# Altium footprint library XSTR.PcbLib: 36 footprints (part 2 of 3)
Each footprint in its own frame and in the unit in brackets; x right, y up, seen from the top. Pads: shape width x height; smd on the part's side, far side on the other; paste and mask are expansions set on the pad; w line width, h text height; cw(c..) or ccw(c..) is an arc to the next point about the centre after c.
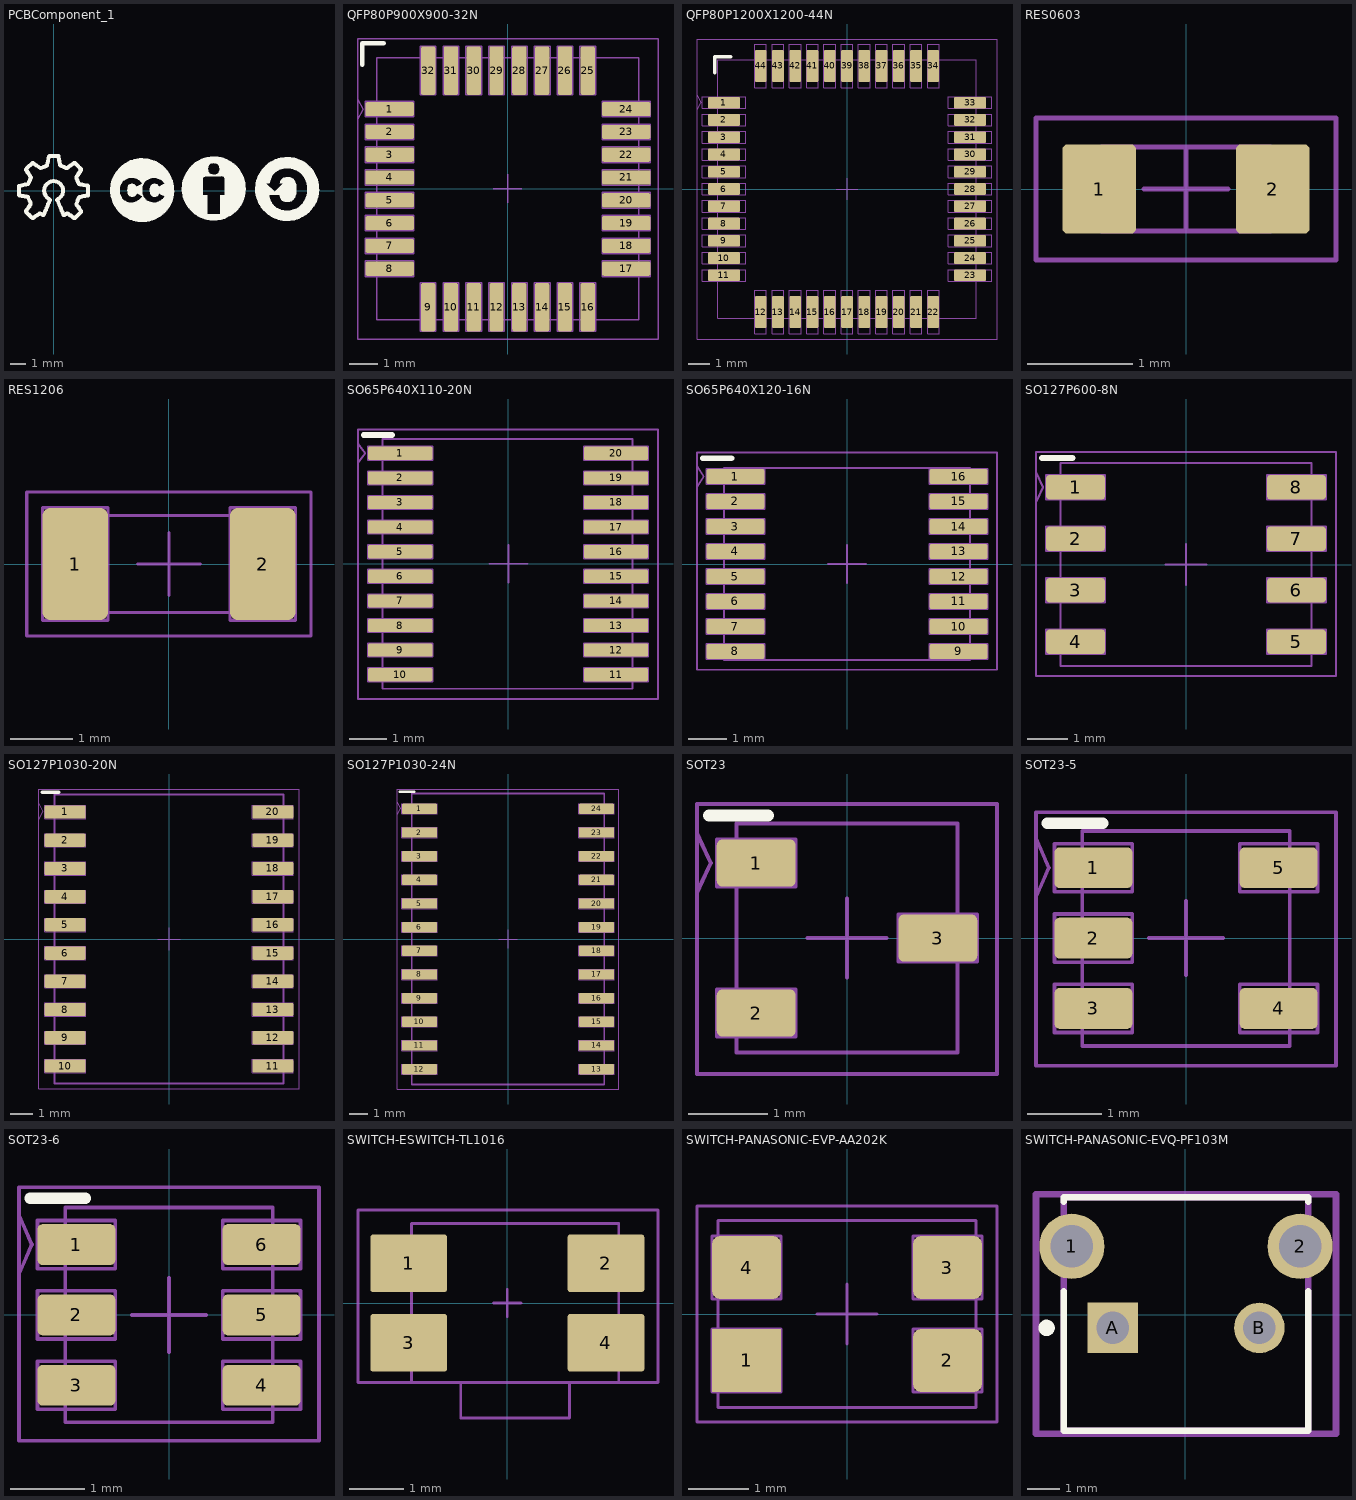
[diagram p1: the footprints below, top view; thin cyan lines are the x and y axes]

## PCBComponent_1 [mm]
Top Overlay:
  drawing of 274 lines, arcs and shapes, not listed

## QFP80P900X900-32N [mm] "TQFP80P900X900 32N"
height 1.2
pads (32):
  rrect25% 1.7x0.5 smd mask+0.075: 1(-4.139,2.791) 2(-4.139,1.991) 3(-4.139,1.191) 4(-4.139,0.391) 5(-4.139,-0.409) 6(-4.139,-1.209) 7(-4.139,-2.009) 8(-4.139,-2.809) 17(4.161,-2.809) 18(4.161,-2.009) 19(4.161,-1.209) 20(4.161,-0.409) 21(4.161,0.391) 22(4.161,1.191) 23(4.161,1.991) 24(4.161,2.791)
  rrect25% 0.5x1.7 smd mask+0.075: 9(-2.789,-4.159) 10(-1.989,-4.159) 11(-1.189,-4.159) 12(-0.389,-4.159) 13(0.411,-4.159) 14(1.211,-4.159) 15(2.011,-4.159) 16(2.811,-4.159) 25(2.811,4.141) 26(2.011,4.141) 27(1.211,4.141) 28(0.411,4.141) 29(-0.389,4.141) 30(-1.189,4.141) 31(-1.989,4.141) 32(-2.789,4.141)
Top Overlay:
  lines w0.15: -5.1,4.35 -5.1,5.1 -4.35,5.1
Top Courtyard:
  lines w0.05: -5.25,2.441 -5.064,2.791 -5.25,3.141 ; -0.5,0 0,0 ; 0,-0.5 0,0 ; 0,0.5 0,0 ; 0.5,0 0,0 ; -5.25,-5.275 -5.25,5.25 5.275,5.25 5.275,-5.275 -5.25,-5.275
Top Assembly:
  lines w0.05: -4.989,-3.084 -4.989,-2.534 -3.289,-2.534 -3.289,-3.084 -4.989,-3.084 ; -4.989,-2.284 -4.989,-1.734 -3.289,-1.734 -3.289,-2.284 -4.989,-2.284 ; -4.989,-1.484 -4.989,-0.934 -3.289,-0.934 -3.289,-1.484 -4.989,-1.484 ; -4.989,-0.684 -4.989,-0.134 -3.289,-0.134 -3.289,-0.684 -4.989,-0.684 ; -4.989,0.116 -4.989,0.666 -3.289,0.666 -3.289,0.116 -4.989,0.116 ; -4.989,0.916 -4.989,1.466 -3.289,1.466 -3.289,0.916 -4.989,0.916 ; -4.989,1.716 -4.989,2.266 -3.289,2.266 -3.289,1.716 -4.989,1.716 ; -4.989,2.516 -4.989,3.066 -3.289,3.066 -3.289,2.516 -4.989,2.516 ; -4.599,-4.6 -4.599,4.599 4.599,4.599 4.599,-4.6 -4.599,-4.6 ; -3.064,-5.009 -3.064,-3.309 -2.514,-3.309 -2.514,-5.009 -3.064,-5.009 ; -3.064,3.291 -3.064,4.991 -2.514,4.991 -2.514,3.291 -3.064,3.291 ; -2.264,-5.009 -2.264,-3.309 -1.714,-3.309 -1.714,-5.009 -2.264,-5.009 ; -2.264,3.291 -2.264,4.991 -1.714,4.991 -1.714,3.291 -2.264,3.291 ; -1.464,-5.009 -1.464,-3.309 -0.914,-3.309 -0.914,-5.009 -1.464,-5.009 ; -1.464,3.291 -1.464,4.991 -0.914,4.991 -0.914,3.291 -1.464,3.291 ; -0.664,-5.009 -0.664,-3.309 -0.114,-3.309 -0.114,-5.009 -0.664,-5.009 ; -0.664,3.291 -0.664,4.991 -0.114,4.991 -0.114,3.291 -0.664,3.291 ; 0.136,-5.009 0.136,-3.309 0.686,-3.309 0.686,-5.009 0.136,-5.009 ; 0.136,3.291 0.136,4.991 0.686,4.991 0.686,3.291 0.136,3.291 ; 0.936,-5.009 0.936,-3.309 1.486,-3.309 1.486,-5.009 0.936,-5.009 ; 0.936,3.291 0.936,4.991 1.486,4.991 1.486,3.291 0.936,3.291 ; 1.736,-5.009 1.736,-3.309 2.286,-3.309 2.286,-5.009 1.736,-5.009 ; 1.736,3.291 1.736,4.991 2.286,4.991 2.286,3.291 1.736,3.291 ; 2.536,-5.009 2.536,-3.309 3.086,-3.309 3.086,-5.009 2.536,-5.009 ; 2.536,3.291 2.536,4.991 3.086,4.991 3.086,3.291 2.536,3.291 ; 3.311,-3.084 3.311,-2.534 5.011,-2.534 5.011,-3.084 3.311,-3.084 ; 3.311,-2.284 3.311,-1.734 5.011,-1.734 5.011,-2.284 3.311,-2.284 ; 3.311,-1.484 3.311,-0.934 5.011,-0.934 5.011,-1.484 3.311,-1.484 ; 3.311,-0.684 3.311,-0.134 5.011,-0.134 5.011,-0.684 3.311,-0.684 ; 3.311,0.116 3.311,0.666 5.011,0.666 5.011,0.116 3.311,0.116 ; 3.311,0.916 3.311,1.466 5.011,1.466 5.011,0.916 3.311,0.916 ; 3.311,1.716 3.311,2.266 5.011,2.266 5.011,1.716 3.311,1.716 ; 3.311,2.516 3.311,3.066 5.011,3.066 5.011,2.516 3.311,2.516
3D body "User Library-tqfp32.step": height 1.2, standoff 0, extent -4.599,-4.6 4.599,4.599

## QFP80P1200X1200-44N [mm] "TQFP80P1200X1200 44N"
height 1.1
pads (44):
  rrect25% 1.5x0.54 smd mask+0.075: 1(-5.7,4) 2(-5.7,3.2) 3(-5.7,2.4) 4(-5.7,1.6) 5(-5.7,0.8) 6(-5.7,0) 7(-5.7,-0.8) 8(-5.7,-1.6) 9(-5.7,-2.4) 10(-5.7,-3.2) 11(-5.7,-4) 23(5.7,-4) 24(5.7,-3.2) 25(5.7,-2.4) 26(5.7,-1.6) 27(5.7,-0.8) 28(5.7,0) 29(5.7,0.8) 30(5.7,1.6) 31(5.7,2.4) 32(5.7,3.2) 33(5.7,4)
  rrect25% 0.54x1.5 smd mask+0.075: 12(-4,-5.7) 13(-3.2,-5.7) 14(-2.4,-5.7) 15(-1.6,-5.7) 16(-0.8,-5.7) 17(0,-5.7) 18(0.8,-5.7) 19(1.6,-5.7) 20(2.4,-5.7) 21(3.2,-5.7) 22(4,-5.7) 34(4,5.7) 35(3.2,5.7) 36(2.4,5.7) 37(1.6,5.7) 38(0.8,5.7) 39(0,5.7) 40(-0.8,5.7) 41(-1.6,5.7) 42(-2.4,5.7) 43(-3.2,5.7) 44(-4,5.7)
Top Overlay:
  lines w0.152: -6.125,5.375 -6.125,6.125 -5.375,6.125
Top Courtyard:
  lines w0.05: -6.95,3.655 -6.775,4 -6.95,4.345 ; -0.5,0 0,0 ; 0,-0.5 0,0 ; 0,0.5 0,0 ; 0.5,0 0,0 ; -6.95,-6.95 -6.95,6.95 6.95,6.95 6.95,-6.95 -6.95,-6.95
Top Assembly:
  drawing of 180 lines, arcs and shapes, not listed
  text "1" at -6.7,3.73 h0.3
3D body "User Library-TQFP-44-1.STEP": height 1.1, standoff 0, extent -6,-6 6,6

## RES0603 [mm] "Chip Resistor, 2-Leads, Body 1.60x0.80mm, IPC Medium Density"
height 0.45
pads (2):
  rrect14% 0.7x0.85 smd mask+0.05: 1(-0.825,0) 2(0.825,0)
Top Courtyard:
  lines w0.05: -0.4,0 0,0 ; 0,-0.4 0,0 ; 0,0.4 0,0 ; 0.4,0 0,0 ; -1.425,-0.675 1.425,-0.675 1.425,0.675 -1.425,0.675 -1.425,-0.675
Top Assembly:
  lines w0.05: -0.8,-0.4 0.8,-0.4 0.8,0.4 -0.8,0.4 -0.8,-0.4
3D body "RESC1608X04N.step": height 0.45, standoff 0, extent -0.8,-0.4 0.8,0.4

## RES1206 [mm] "RESISTOR, CHIP 1206 (3216)"
height 0.474
pads (2):
  rrect25% 1.05x1.8 smd paste+0 mask+0.075: 1(-1.5,0) 2(1.5,0)
Top Courtyard:
  lines w0.05: -0.5,0 0,0 ; 0,-0.5 0,0 ; 0,0.5 0,0 ; 0.5,0 0,0 ; -2.275,-1.15 -2.275,1.15 2.275,1.15 2.275,-1.15 -2.275,-1.15
Top Assembly:
  lines w0.05: -2.025,-0.9 -2.025,0.9 -0.975,0.9 -0.975,-0.9 -2.025,-0.9 ; -1.55,-0.776 -1.55,0.776 1.55,0.776 1.55,-0.776 -1.55,-0.776 ; 0.975,-0.9 0.975,0.9 2.025,0.9 2.025,-0.9 0.975,-0.9
3D body "User Library-R1206.step": height 0.47, standoff 0, extent -1.55,-0.776 1.55,0.776

## SO65P640X110-20N [mm] "TSSOP20 - PITCH 0.65MM, SPAN 6.4MM"
height 1.79
pads (20):
  rrect25% 1.7x0.35 smd mask+0.075: 1(-2.859,2.92) 2(-2.859,2.27) 3(-2.859,1.62) 4(-2.859,0.97) 5(-2.859,0.32) 6(-2.859,-0.33) 7(-2.859,-0.98) 8(-2.859,-1.63) 9(-2.859,-2.28) 10(-2.859,-2.93) 11(2.841,-2.93) 12(2.841,-2.28) 13(2.841,-1.63) 14(2.841,-0.98) 15(2.841,-0.33) 16(2.841,0.32) 17(2.841,0.97) 18(2.841,1.62) 19(2.841,2.27) 20(2.841,2.92)
Top Overlay:
  lines w0.152: -3.825,3.4 -3.075,3.4
Top Courtyard:
  lines w0.05: -3.975,2.67 -3.784,2.92 -3.975,3.17 ; -0.5,0 0,0 ; 0,-0.5 0,0 ; 0,0.5 0,0 ; 0.5,0 0,0 ; -3.975,-3.575 -3.975,3.55 3.95,3.55 3.95,-3.575 -3.975,-3.575
Top Assembly:
  lines w0.05: -3.709,-3.105 -3.709,-2.755 -2.009,-2.755 -2.009,-3.105 -3.709,-3.105 ; -3.709,-2.455 -3.709,-2.105 -2.009,-2.105 -2.009,-2.455 -3.709,-2.455 ; -3.709,-1.805 -3.709,-1.455 -2.009,-1.455 -2.009,-1.805 -3.709,-1.805 ; -3.709,-1.155 -3.709,-0.805 -2.009,-0.805 -2.009,-1.155 -3.709,-1.155 ; -3.709,-0.505 -3.709,-0.155 -2.009,-0.155 -2.009,-0.505 -3.709,-0.505 ; -3.709,0.145 -3.709,0.495 -2.009,0.495 -2.009,0.145 -3.709,0.145 ; -3.709,0.795 -3.709,1.145 -2.009,1.145 -2.009,0.795 -3.709,0.795 ; -3.709,1.445 -3.709,1.795 -2.009,1.795 -2.009,1.445 -3.709,1.445 ; -3.709,2.095 -3.709,2.445 -2.009,2.445 -2.009,2.095 -3.709,2.095 ; -3.709,2.745 -3.709,3.095 -2.009,3.095 -2.009,2.745 -3.709,2.745 ; -3.325,-3.3 -3.325,3.3 3.275,3.3 3.275,-3.3 -3.325,-3.3 ; 1.991,-3.105 1.991,-2.755 3.691,-2.755 3.691,-3.105 1.991,-3.105 ; 1.991,-2.455 1.991,-2.105 3.691,-2.105 3.691,-2.455 1.991,-2.455 ; 1.991,-1.805 1.991,-1.455 3.691,-1.455 3.691,-1.805 1.991,-1.805 ; 1.991,-1.155 1.991,-0.805 3.691,-0.805 3.691,-1.155 1.991,-1.155 ; 1.991,-0.505 1.991,-0.155 3.691,-0.155 3.691,-0.505 1.991,-0.505 ; 1.991,0.145 1.991,0.495 3.691,0.495 3.691,0.145 1.991,0.145 ; 1.991,0.795 1.991,1.145 3.691,1.145 3.691,0.795 1.991,0.795 ; 1.991,1.445 1.991,1.795 3.691,1.795 3.691,1.445 1.991,1.445 ; 1.991,2.095 1.991,2.445 3.691,2.445 3.691,2.095 1.991,2.095 ; 1.991,2.745 1.991,3.095 3.691,3.095 3.691,2.745 1.991,2.745
  text "1" at -3.709,2.745 h0.3
3D body "SW3dPS-TSOP_20.step": height 1.79, standoff -0.05, extent -3.325,-3.3 3.275,3.3

## SO65P640X120-16N [mm] "TSSOP16, 0.65MM PITCH, 6.40MM SPAN, 1.2MM HEIGHT"
height 1.1
pads (16):
  rrect25% 1.5x0.4 smd mask+0.075: 1(-2.9,2.275) 2(-2.9,1.625) 3(-2.9,0.975) 4(-2.9,0.325) 5(-2.9,-0.325) 6(-2.9,-0.975) 7(-2.9,-1.625) 8(-2.9,-2.275) 9(2.9,-2.275) 10(2.9,-1.625) 11(2.9,-0.975) 12(2.9,-0.325) 13(2.9,0.325) 14(2.9,0.975) 15(2.9,1.625) 16(2.9,2.275)
Top Overlay:
  lines w0.152: -3.75,2.75 -3,2.75
Top Courtyard:
  lines w0.05: -3.9,2 -3.725,2.275 -3.9,2.55 ; -0.5,0 0,0 ; 0,-0.5 0,0 ; 0,0.5 0,0 ; 0.5,0 0,0 ; -3.9,-2.75 3.9,-2.75 3.9,2.9 -3.9,2.9 -3.9,-2.75
Top Assembly:
  lines w0.05: -3.65,-2.475 -2.15,-2.475 -2.15,-2.075 -3.65,-2.075 -3.65,-2.475 ; -3.65,-1.825 -2.15,-1.825 -2.15,-1.425 -3.65,-1.425 -3.65,-1.825 ; -3.65,-1.175 -2.15,-1.175 -2.15,-0.775 -3.65,-0.775 -3.65,-1.175 ; -3.65,-0.525 -2.15,-0.525 -2.15,-0.125 -3.65,-0.125 -3.65,-0.525 ; -3.65,0.125 -2.15,0.125 -2.15,0.525 -3.65,0.525 -3.65,0.125 ; -3.65,0.775 -2.15,0.775 -2.15,1.175 -3.65,1.175 -3.65,0.775 ; -3.65,1.425 -2.15,1.425 -2.15,1.825 -3.65,1.825 -3.65,1.425 ; -3.65,2.075 -2.15,2.075 -2.15,2.475 -3.65,2.475 -3.65,2.075 ; -3.2,-2.5 3.2,-2.5 3.2,2.5 -3.2,2.5 -3.2,-2.5 ; 2.15,-2.475 3.65,-2.475 3.65,-2.075 2.15,-2.075 2.15,-2.475 ; 2.15,-1.825 3.65,-1.825 3.65,-1.425 2.15,-1.425 2.15,-1.825 ; 2.15,-1.175 3.65,-1.175 3.65,-0.775 2.15,-0.775 2.15,-1.175 ; 2.15,-0.525 3.65,-0.525 3.65,-0.125 2.15,-0.125 2.15,-0.525 ; 2.15,0.125 3.65,0.125 3.65,0.525 2.15,0.525 2.15,0.125 ; 2.15,0.775 3.65,0.775 3.65,1.175 2.15,1.175 2.15,0.775 ; 2.15,1.425 3.65,1.425 3.65,1.825 2.15,1.825 2.15,1.425 ; 2.15,2.075 3.65,2.075 3.65,2.475 2.15,2.475 2.15,2.075
  text "1" at -3.65,2.075 h0.3
3D body "User Library-TSSOP-16-1.step": height 1.1, standoff 0, extent -3.2,-2.5 3.2,2.5

## SO127P600-8N [mm] "SO8"
height 1.75
pads (8):
  rrect25% 1.45x0.6 smd mask+0.075: 1(-2.725,1.905) 2(-2.725,0.635) 3(-2.725,-0.635) 4(-2.725,-1.905) 5(2.725,-1.905) 6(2.725,-0.635) 7(2.725,0.635) 8(2.725,1.905)
Top Overlay:
  lines w0.15: -3.55,2.625 -2.8,2.625
Top Courtyard:
  lines w0.05: -3.7,1.53 -3.525,1.905 -3.7,2.28 ; -0.5,0 0,0 ; 0,-0.5 0,0 ; 0,0.5 0,0 ; 0.5,0 0,0 ; -3.7,-2.75 3.7,-2.75 3.7,2.775 -3.7,2.775 -3.7,-2.75
Top Assembly:
  lines w0.05: -3.45,-2.205 -2,-2.205 -2,-1.605 -3.45,-1.605 -3.45,-2.205 ; -3.45,-0.935 -2,-0.935 -2,-0.335 -3.45,-0.335 -3.45,-0.935 ; -3.45,0.335 -2,0.335 -2,0.935 -3.45,0.935 -3.45,0.335 ; -3.45,1.605 -2,1.605 -2,2.205 -3.45,2.205 -3.45,1.605 ; -3.1,-2.5 3.1,-2.5 3.1,2.5 -3.1,2.5 -3.1,-2.5 ; 2,-2.205 3.45,-2.205 3.45,-1.605 2,-1.605 2,-2.205 ; 2,-0.935 3.45,-0.935 3.45,-0.335 2,-0.335 2,-0.935 ; 2,0.335 3.45,0.335 3.45,0.935 2,0.935 2,0.335 ; 2,1.605 3.45,1.605 3.45,2.205 2,2.205 2,1.605
  text "1" at -3.45,1.605 h0.3
3D body "SOIC127P620X175_HS-9N.step": height 1.75, standoff 0, extent -3.1,-2.5 3.1,2.5

## SO127P1030-20N [mm] "SOIC, 20-LEADS, BODY 12.80X7.50MM, PITCH 1.27MM, IPC MEDIUM DENSITY"
height 2.65
pads (20):
  rrect25% 1.85x0.6 smd mask+0.075: 1(-4.675,5.715) 2(-4.675,4.445) 3(-4.675,3.175) 4(-4.675,1.905) 5(-4.675,0.635) 6(-4.675,-0.635) 7(-4.675,-1.905) 8(-4.675,-3.175) 9(-4.675,-4.445) 10(-4.675,-5.715) 11(4.675,-5.715) 12(4.675,-4.445) 13(4.675,-3.175) 14(4.675,-1.905) 15(4.675,-0.635) 16(4.675,0.635) 17(4.675,1.905) 18(4.675,3.175) 19(4.675,4.445) 20(4.675,5.715)
Top Overlay:
  lines w0.152: -5.7,6.6 -4.95,6.6
Top Courtyard:
  lines w0.05: -5.85,5.34 -5.675,5.715 -5.85,6.09 ; -0.5,0 0,0 ; 0,-0.5 0,0 ; 0,0.5 0,0 ; 0.5,0 0,0 ; -5.85,-6.75 5.85,-6.75 5.85,6.75 -5.85,6.75 -5.85,-6.75
Top Assembly:
  lines w0.05: -5.6,-6.015 -3.75,-6.015 -3.75,-5.415 -5.6,-5.415 -5.6,-6.015 ; -5.6,-4.745 -3.75,-4.745 -3.75,-4.145 -5.6,-4.145 -5.6,-4.745 ; -5.6,-3.475 -3.75,-3.475 -3.75,-2.875 -5.6,-2.875 -5.6,-3.475 ; -5.6,-2.205 -3.75,-2.205 -3.75,-1.605 -5.6,-1.605 -5.6,-2.205 ; -5.6,-0.935 -3.75,-0.935 -3.75,-0.335 -5.6,-0.335 -5.6,-0.935 ; -5.6,0.335 -3.75,0.335 -3.75,0.935 -5.6,0.935 -5.6,0.335 ; -5.6,1.605 -3.75,1.605 -3.75,2.205 -5.6,2.205 -5.6,1.605 ; -5.6,2.875 -3.75,2.875 -3.75,3.475 -5.6,3.475 -5.6,2.875 ; -5.6,4.145 -3.75,4.145 -3.75,4.745 -5.6,4.745 -5.6,4.145 ; -5.6,5.415 -3.75,5.415 -3.75,6.015 -5.6,6.015 -5.6,5.415 ; 3.75,-6.015 5.6,-6.015 5.6,-5.415 3.75,-5.415 3.75,-6.015 ; 3.75,-4.745 5.6,-4.745 5.6,-4.145 3.75,-4.145 3.75,-4.745 ; 3.75,-3.475 5.6,-3.475 5.6,-2.875 3.75,-2.875 3.75,-3.475 ; 3.75,-2.205 5.6,-2.205 5.6,-1.605 3.75,-1.605 3.75,-2.205 ; 3.75,-0.935 5.6,-0.935 5.6,-0.335 3.75,-0.335 3.75,-0.935 ; 3.75,0.335 5.6,0.335 5.6,0.935 3.75,0.935 3.75,0.335 ; 3.75,1.605 5.6,1.605 5.6,2.205 3.75,2.205 3.75,1.605 ; 3.75,2.875 5.6,2.875 5.6,3.475 3.75,3.475 3.75,2.875 ; 3.75,4.145 5.6,4.145 5.6,4.745 3.75,4.745 3.75,4.145 ; 3.75,5.415 5.6,5.415 5.6,6.015 3.75,6.015 3.75,5.415
  lines w0.1: -5.15,-6.5 5.15,-6.5 5.15,6.5 -5.15,6.5 -5.15,-6.5
  text "1" at -5.6,5.415 h0.3
3D body "SOIC127P1030X265-20N.step": height 2.65, standoff 0, extent -5.15,-6.5 5.15,6.5

## SO127P1030-24N [mm] "SOP, 24-LEADS, BODY 15.40X7.50MM, PITCH 1.27MM, IPC MEDIUM DENSITY"
height 2.65
pads (24):
  rrect25% 1.9x0.55 smd mask+0.075: 1(-4.75,6.985) 2(-4.75,5.715) 3(-4.75,4.445) 4(-4.75,3.175) 5(-4.75,1.905) 6(-4.75,0.635) 7(-4.75,-0.635) 8(-4.75,-1.905) 9(-4.75,-3.175) 10(-4.75,-4.445) 11(-4.75,-5.715) 12(-4.75,-6.985) 13(4.75,-6.985) 14(4.75,-5.715) 15(4.75,-4.445) 16(4.75,-3.175) 17(4.75,-1.905) 18(4.75,-0.635) 19(4.75,0.635) 20(4.75,1.905) 21(4.75,3.175) 22(4.75,4.445) 23(4.75,5.715) 24(4.75,6.985)
Top Overlay:
  lines w0.152: -5.8,7.9 -5.05,7.9
Top Courtyard:
  lines w0.05: -5.95,6.635 -5.775,6.985 -5.95,7.335 ; -0.5,0 0,0 ; 0,-0.5 0,0 ; 0,0.5 0,0 ; 0.5,0 0,0 ; -5.95,-8.05 -5.95,8.05 5.95,8.05 5.95,-8.05 -5.95,-8.05
Top Assembly:
  lines w0.05: -5.7,-7.26 -5.7,-6.71 -3.8,-6.71 -3.8,-7.26 -5.7,-7.26 ; -5.7,-5.99 -5.7,-5.44 -3.8,-5.44 -3.8,-5.99 -5.7,-5.99 ; -5.7,-4.72 -5.7,-4.17 -3.8,-4.17 -3.8,-4.72 -5.7,-4.72 ; -5.7,-3.45 -5.7,-2.9 -3.8,-2.9 -3.8,-3.45 -5.7,-3.45 ; -5.7,-2.18 -5.7,-1.63 -3.8,-1.63 -3.8,-2.18 -5.7,-2.18 ; -5.7,-0.91 -5.7,-0.36 -3.8,-0.36 -3.8,-0.91 -5.7,-0.91 ; -5.7,0.36 -5.7,0.91 -3.8,0.91 -3.8,0.36 -5.7,0.36 ; -5.7,1.63 -5.7,2.18 -3.8,2.18 -3.8,1.63 -5.7,1.63 ; -5.7,2.9 -5.7,3.45 -3.8,3.45 -3.8,2.9 -5.7,2.9 ; -5.7,4.17 -5.7,4.72 -3.8,4.72 -3.8,4.17 -5.7,4.17 ; -5.7,5.44 -5.7,5.99 -3.8,5.99 -3.8,5.44 -5.7,5.44 ; -5.7,6.71 -5.7,7.26 -3.8,7.26 -3.8,6.71 -5.7,6.71 ; 3.8,-7.26 3.8,-6.71 5.7,-6.71 5.7,-7.26 3.8,-7.26 ; 3.8,-5.99 3.8,-5.44 5.7,-5.44 5.7,-5.99 3.8,-5.99 ; 3.8,-4.72 3.8,-4.17 5.7,-4.17 5.7,-4.72 3.8,-4.72 ; 3.8,-3.45 3.8,-2.9 5.7,-2.9 5.7,-3.45 3.8,-3.45 ; 3.8,-2.18 3.8,-1.63 5.7,-1.63 5.7,-2.18 3.8,-2.18 ; 3.8,-0.91 3.8,-0.36 5.7,-0.36 5.7,-0.91 3.8,-0.91 ; 3.8,0.36 3.8,0.91 5.7,0.91 5.7,0.36 3.8,0.36 ; 3.8,1.63 3.8,2.18 5.7,2.18 5.7,1.63 3.8,1.63 ; 3.8,2.9 3.8,3.45 5.7,3.45 5.7,2.9 3.8,2.9 ; 3.8,4.17 3.8,4.72 5.7,4.72 5.7,4.17 3.8,4.17 ; 3.8,5.44 3.8,5.99 5.7,5.99 5.7,5.44 3.8,5.44 ; 3.8,6.71 3.8,7.26 5.7,7.26 5.7,6.71 3.8,6.71
  lines w0.1: -5.162,-7.8 -5.162,7.8 5.162,7.8 5.162,-7.8 -5.162,-7.8
  text "1" at -5.7,6.71 h0.3
3D body "SOP127P1030X265-24N.step": height 2.65, standoff 0, extent -5.162,-7.8 5.162,7.8

## SOT23 [mm] "SOT23 PACKAGE, 3 PIN"
height 1.3
pads (3):
  rrect25% 1x0.6 smd paste+0 mask+0.075: 1(-1.15,0.95) 2(-1.15,-0.95) 3(1.15,0)
Top Overlay:
  lines w0.152: -1.75,1.55 -1,1.55
Top Courtyard:
  lines w0.05: -1.9,0.575 -1.725,0.95 -1.9,1.325 ; -0.5,0 0,0 ; 0,-0.5 0,0 ; 0,0.5 0,0 ; 0.5,0 0,0 ; -1.9,-1.725 -1.9,1.7 1.9,1.7 1.9,-1.725 -1.9,-1.725
Top Assembly:
  lines w0.05: -1.65,-1.25 -1.65,-0.65 -0.65,-0.65 -0.65,-1.25 -1.65,-1.25 ; -1.65,0.65 -1.65,1.25 -0.65,1.25 -0.65,0.65 -1.65,0.65 ; -1.4,-1.45 -1.4,1.45 1.4,1.45 1.4,-1.45 -1.4,-1.45 ; 0.65,-0.3 0.65,0.3 1.65,0.3 1.65,-0.3 0.65,-0.3
3D body "SOT23-3.step": height 1.3, standoff 0, extent -1.4,-1.45 1.4,1.45

## SOT23-5 [mm] "SOT23 PACKAGE, 5 PIN (SOT25)"
height 1.45
pads (5):
  rrect25% 1.05x0.55 smd paste+0 mask+0.075: 1(-1.25,0.95) 2(-1.25,0) 3(-1.25,-0.95) 4(1.25,-0.95) 5(1.25,0.95)
Top Overlay:
  lines w0.152: -1.875,1.55 -1.125,1.55
Top Courtyard:
  lines w0.05: -2.025,0.55 -1.85,0.95 -2.025,1.35 ; -0.5,0 0,0 ; 0,-0.5 0,0 ; 0,0.5 0,0 ; 0.5,0 0,0 ; -2.025,-1.725 -2.025,1.7 2.025,1.7 2.025,-1.725 -2.025,-1.725
Top Assembly:
  lines w0.05: -1.775,-1.275 -1.775,-0.625 -0.725,-0.625 -0.725,-1.275 -1.775,-1.275 ; -1.775,-0.325 -1.775,0.325 -0.725,0.325 -0.725,-0.325 -1.775,-0.325 ; -1.775,0.625 -1.775,1.275 -0.725,1.275 -0.725,0.625 -1.775,0.625 ; -1.401,-1.456 -1.401,1.444 1.399,1.444 1.399,-1.456 -1.401,-1.456 ; 0.725,-1.275 0.725,-0.625 1.775,-0.625 1.775,-1.275 0.725,-1.275 ; 0.725,0.625 0.725,1.275 1.775,1.275 1.775,0.625 0.725,0.625
  text "1" at -1.775,0.625 h0.3
3D body "SOT23-5.step": height 1.45, standoff 0, extent -1.401,-1.456 1.399,1.444

## SOT23-6 [mm] "SOT23 PACKAGE, 6 PIN (SOT26)"
height 1.45
pads (6):
  rrect25% 1.05x0.55 smd paste+0 mask+0.05: 1(-1.25,0.95) 2(-1.25,0) 3(-1.25,-0.95) 4(1.25,-0.95) 5(1.25,0) 6(1.25,0.95)
Top Overlay:
  lines w0.15: -1.875,1.575 -1.125,1.575
Top Courtyard:
  lines w0.05: -2.025,0.55 -1.85,0.95 -2.025,1.35 ; -0.5,0 0,0 ; 0,-0.5 0,0 ; 0,0.5 0,0 ; 0.5,0 0,0 ; -2.025,-1.7 -2.025,1.725 2.025,1.725 2.025,-1.7 -2.025,-1.7
Top Assembly:
  lines w0.05: -1.775,-1.275 -1.775,-0.625 -0.725,-0.625 -0.725,-1.275 -1.775,-1.275 ; -1.775,-0.325 -1.775,0.325 -0.725,0.325 -0.725,-0.325 -1.775,-0.325 ; -1.775,0.625 -1.775,1.275 -0.725,1.275 -0.725,0.625 -1.775,0.625 ; -1.4,-1.45 -1.4,1.45 1.4,1.45 1.4,-1.45 -1.4,-1.45 ; 0.725,-1.275 0.725,-0.625 1.775,-0.625 1.775,-1.275 0.725,-1.275 ; 0.725,-0.325 0.725,0.325 1.775,0.325 1.775,-0.325 0.725,-0.325 ; 0.725,0.625 0.725,1.275 1.775,1.275 1.775,0.625 0.725,0.625
  text "1" at -1.775,0.625 h0.3
3D body "SOT23-6.step": height 1.45, standoff 0, extent -1.4,-1.45 1.4,1.45

## SWITCH-ESWITCH-TL1016 [mm]
pads (4):
  rrect9% 1.4x1.05 smd paste+0 mask+0.05: 1(-1.8,0.725) 2(1.8,0.725) 3(-1.8,-0.725) 4(1.8,-0.725)
Top Courtyard:
  lines w0.05: -0.25,0 0,0 ; 0,-0.25 0,0 ; 0,0.25 0,0 ; 0.25,0 0,0 ; -2.725,-1.45 -2.725,1.7 2.75,1.7 2.75,-1.2 2.75,-1.45 1.134,-1.45 -2.725,-1.45
Top Assembly:
  lines w0.05: -1.75,-1.45 -1.75,1.45 2.035,1.45 2.035,-1.45 1.134,-1.45 1.134,-2.1 -0.85,-2.1 -0.85,-1.45 -1.75,-1.45
3D body "TL1016AAFxxxQG.stp": height 1.36, standoff 0.01, extent -2.35,-2.1 2.35,1.45

## SWITCH-PANASONIC-EVP-AA202K [mm] "SWITCH-PANASONIC-EVP-AA202K"
height 1.713
pads (4):
  rect 1.15x1.05 smd mask+0.075: 1(-1.675,-0.775)
  rrect25% 1.15x1.05 smd mask+0.075: 2(1.675,-0.775) 3(1.675,0.775) 4(-1.675,0.775)
Top Courtyard:
  lines w0.05: 0,-0.5 0,0 ; 0,0 -0.5,0 0,0 ; 0,0 0,0.5 0,0 ; 0,0 0.5,0 0,0 ; -2.5,-1.8 2.5,-1.8 2.5,1.8 -2.5,1.8 -2.5,-1.8
Top Assembly:
  lines w0.05: -2.25,-1.3 -2.25,-0.25 -1.675,-0.25 -1.1,-0.25 -1.1,-1.3 -2.25,-1.3 ; -2.25,0.25 -2.25,1.3 -1.675,1.3 -1.1,1.3 -1.1,0.25 -2.25,0.25 ; -2.15,-1.555 -2.15,1.555 2.15,1.555 2.15,-1.555 -2.15,-1.555 ; 1.1,-1.3 1.1,-0.25 1.675,-0.25 2.25,-0.25 2.25,-1.3 1.1,-1.3 ; 1.1,0.25 1.1,1.3 1.675,1.3 2.25,1.3 2.25,0.25 1.1,0.25
  text "1" at -2.25,-1.3 h1
3D body "EVPAA-002K_202K_402W_602W_802Q.STEP": height 1.71, standoff 0.01, extent -2.15,-1.555 2.15,1.555

## SWITCH-PANASONIC-EVQ-PF103M [mm]
pads (4):
  round 2 hole 1.3 paste-2539.97 mask+0: 1(-3.475,2.1) 2(3.525,2.1)
  rect 1.55x1.55 hole 1 paste-2539.97 mask+0: A(-2.225,-0.4)
  round 1.55 hole 1 paste-2539.97 mask+0: B(2.275,-0.4)
Top Overlay:
  circle w0.25: c-4.25,-0.4 r0.125
  lines w0.2: -3.725,0.725 -3.725,-3.55 3.775,-3.55 3.775,0.725 ; -3.725,3.475 -3.725,3.6 3.775,3.6 3.775,3.475
Top 3D Body:
  lines w0.2: -3.725,-3.55 3.775,-3.55 3.775,3.6 -3.725,3.6 -3.725,-3.55
Bottom Courtyard:
  lines w0.2: -4.575,-3.65 4.625,-3.65 4.625,3.7 -4.575,3.7 -4.575,-3.65
Top Assembly:
  lines w0.2: -4.575,-3.65 4.625,-3.65 4.625,3.7 -4.575,3.7 -4.575,-3.65
3D body "Switch_Panasonic_Electronic_Components_EVQ-PF103M_eec.STEP": height 0.25, standoff 0, extent -4.575,-3.65 4.625,3.7